# EAGLE library part LM2575N-ADJ (library stabilizatory)
VOLTAGE REGULATOR
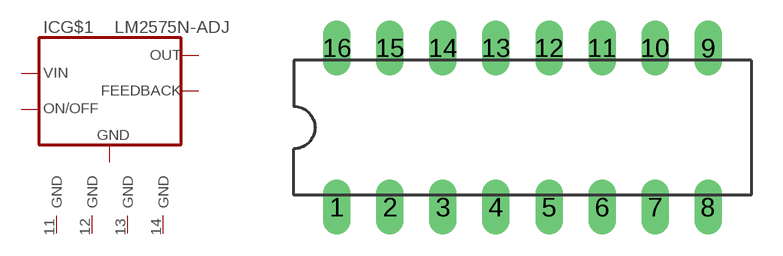
[diagram p20: symbol with the pads of DIP16; footprint DIP16]

Designator prefix IC; gates G$1=LM2595 G$2=GND G$3=GND G$4=GND G$5=GND

## LM2575N-ADJ  [DIP16]
3  G$1:OUT  pas
5  G$1:GND  in
7  G$1:FEEDBACK  pas
9  G$1:ON/OFF  in
11  G$2:GND  pwr
12  G$3:GND  pwr
13  G$4:GND  pwr
14  G$5:GND  pwr
16  G$1:VIN  in

## Footprint DIP16 (pad centres in mm)
Dual In Line Package
drill 0.813 long: 1 -8.89,-3.81; 2 -6.35,-3.81; 3 -3.81,-3.81; 4 -1.27,-3.81; 5 1.27,-3.81; 6 3.81,-3.81; 7 6.35,-3.81; 8 8.89,-3.81; 9 8.89,3.81; 10 6.35,3.81; 11 3.81,3.81; 12 1.27,3.81; 13 -1.27,3.81; 14 -3.81,3.81; 15 -6.35,3.81; 16 -8.89,3.81